# Altium integrated library NSC Amplifier.IntLib: 1615 symbols (part 10 of 44)
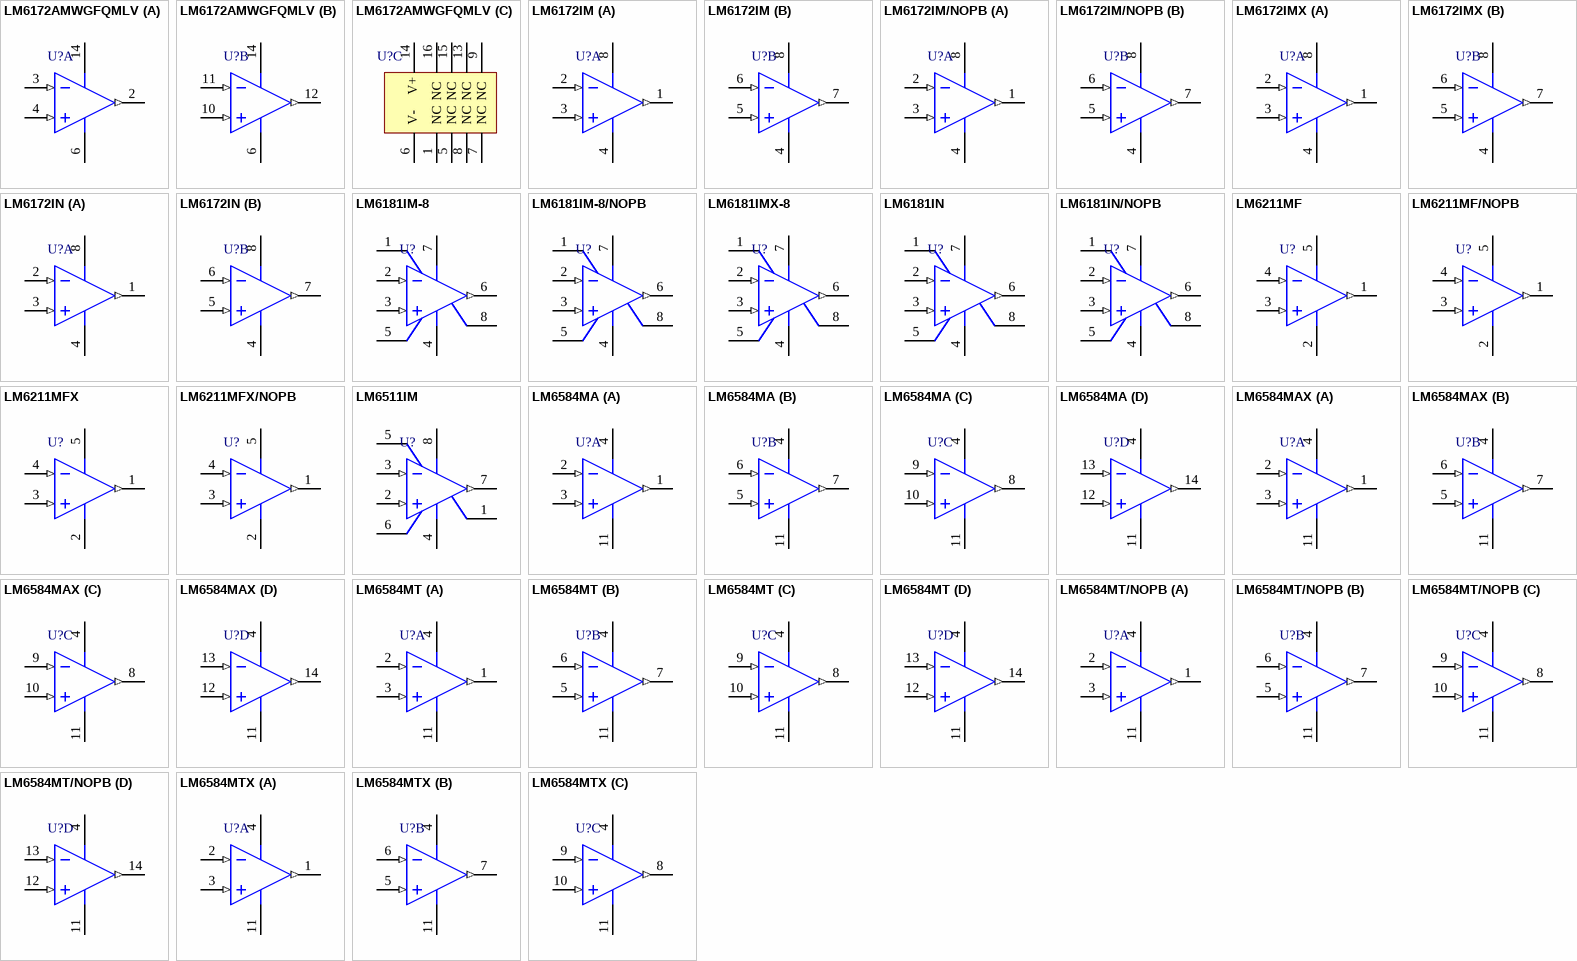
[diagram p91: symbols LM6172AMWGFQMLV to LM6584MTX]

## LM6584MT/NOPB
designator U?
TFT-LCD Quad, 13V RRIO High Output Current Operational Amplifier, 14-pin TSSOP, Pb-Free; PartNumber: LM6584MT/NOPB; Manufacturer: National Semiconductor; PackageTopMarking: NSZXYTT*LM658*4MT; PowerWise: N; CompType: Amplifiers; Published: 1-Mar-2010; DatasheetVersion: Mar-2005; PackageVersion: revD, Jun-2003; PackageReference: MTC14; Publisher: Altium Limited; PackageDescription: Molded TSSOP, JEDEC, 5 x 4.4 x 0.9mm Body, 14 Lead, 0.65mm Pitch; Supplier 1: Digi-Key; Supplier Part Number 1: LM6584MT-ND; RoHS: Y; PinCount: 14; Code_JEDEC: MO-153-AB-1; ComponentLink1Description: LM6584 Datasheet; ComponentLink1URL: http://www.national.com/ds/LM/LM6584.pdf; ComponentLink2Description: LM6584 Web Page; ComponentLink2URL: http://www.national.com/pf/LM/LM6584.html; ComponentLink3Description: MTC14 Package Page; ComponentLink3URL: http://www.national.com/packaging/folders/mtc14.html
footprint MTC14_N (TSOP, 14-Leads, Body 5x4.4mm, Pitch 0.65mm, IPC Medium Density)
footprint MTC14_L (TSOP, 14-Leads, Body 5x4.4mm, Pitch 0.65mm, IPC High Density)
footprint MTC14_M (TSOP, 14-Leads, Body 5x4.4mm, Pitch 0.65mm, IPC Low Density)
pins on every part: 4 V+ (power), 11 V- (power)
part A pins: 1 OUTA (out), 2 INA- (in), 3 INA+ (in)
part B pins: 5 INB+ (in), 6 INB- (in), 7 OUTB (out)
part C pins: 8 OUTC (out), 9 INC- (in), 10 INC+ (in)
part D pins: 12 IND+ (in), 13 IND- (in), 14 OUTD (out)

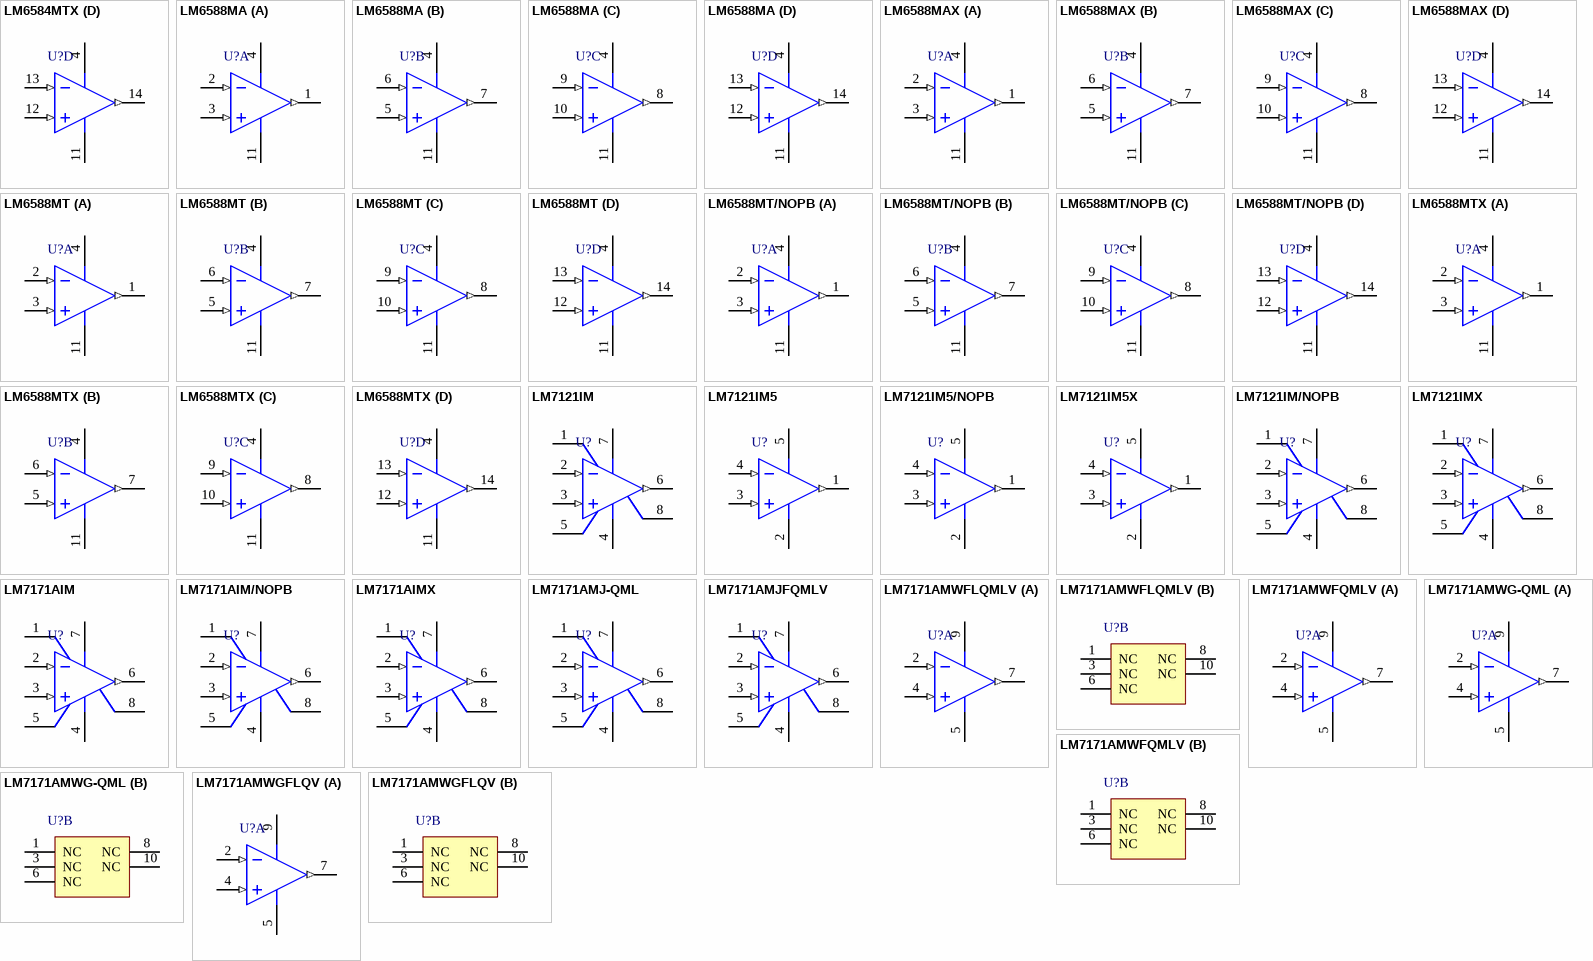
[diagram p22: symbols LM6584MTX to LM7171AMWGFLQV]

## LM6584MTX
designator U?
TFT-LCD Quad, 13V RRIO High Output Current Operational Amplifier, 14-pin TSSOP; PartNumber: LM6584MTX; Manufacturer: National Semiconductor; PackageTopMarking: NSZXYTT*LM658*4MT; PowerWise: N; CompType: Amplifiers; Published: 1-Mar-2010; DatasheetVersion: Mar-2005; PackageVersion: revD, Jun-2003; PackageReference: MTC14; Publisher: Altium Limited; PackageDescription: Molded TSSOP, JEDEC, 5 x 4.4 x 0.9mm Body, 14 Lead, 0.65mm Pitch; RoHS: N; PinCount: 14; Code_JEDEC: MO-153-AB-1; ComponentLink1Description: LM6584 Datasheet; ComponentLink1URL: http://www.national.com/ds/LM/LM6584.pdf; ComponentLink2Description: LM6584 Web Page; ComponentLink2URL: http://www.national.com/pf/LM/LM6584.html; ComponentLink3Description: MTC14 Package Page; ComponentLink3URL: http://www.national.com/packaging/folders/mtc14.html
footprint MTC14_N (TSOP, 14-Leads, Body 5x4.4mm, Pitch 0.65mm, IPC Medium Density)
footprint MTC14_L (TSOP, 14-Leads, Body 5x4.4mm, Pitch 0.65mm, IPC High Density)
footprint MTC14_M (TSOP, 14-Leads, Body 5x4.4mm, Pitch 0.65mm, IPC Low Density)
pins on every part: 4 V+ (power), 11 V- (power)
part A pins: 1 OUTA (out), 2 INA- (in), 3 INA+ (in)
part B pins: 5 INB+ (in), 6 INB- (in), 7 OUTB (out)
part C pins: 8 OUTC (out), 9 INC- (in), 10 INC+ (in)
part D pins: 12 IND+ (in), 13 IND- (in), 14 OUTD (out)

## LM6588MA
designator U?
Quad 16 Volt, RRIO High Output Current Operational Amplifier, 14-pin Narrow SOIC; PartNumber: LM6588MA; Manufacturer: National Semiconductor; PackageTopMarking: NSUZXYTTE#*LM6588MA; PowerWise: N; CompType: Amplifiers; Published: 4-Dec-2008; DatasheetVersion: Jul-2005; PackageVersion: revJ, Jan-1996; PackageReference: M14A; Publisher: Altium Limited; PackageDescription: Molded Package S.O., .150in Wide, 14 Lead; RoHS: N; PinCount: 14; Code_JEDEC: MS-012AB; Code_IPC: SOIC127P600-14; ComponentLink1Description: LM6588 Datasheet; ComponentLink1URL: http://www.national.com/ds/LM/LM6588.pdf; ComponentLink2Description: LM6588 Web Page; ComponentLink2URL: http://www.national.com/pf/LM/LM6588.html; ComponentLink3Description: M14A Package Page; ComponentLink3URL: http://www.national.com/packaging/folders/m14a.html
footprint M14A_N (SOIC, 14-Leads, Body 8.6x3.9mm, Pitch 1.27mm, IPC Medium Density)
footprint M14A_L (SOIC, 14-Leads, Body 8.6x3.9mm, Pitch 1.27mm, IPC High Density)
footprint M14A_M (SOIC, 14-Leads, Body 8.6x3.9mm, Pitch 1.27mm, IPC Low Density)
pins on every part: 4 V+ (power), 11 V- (power)
part A pins: 1 OUTA (out), 2 INA- (in), 3 INA+ (in)
part B pins: 5 INB+ (in), 6 INB- (in), 7 OUTB (out)
part C pins: 8 OUTC (out), 9 INC- (in), 10 INC+ (in)
part D pins: 12 IND+ (in), 13 IND- (in), 14 OUTD (out)

## LM6588MAX
designator U?
Quad 16 Volt, RRIO High Output Current Operational Amplifier, 14-pin Narrow SOIC; PartNumber: LM6588MAX; Manufacturer: National Semiconductor; PackageTopMarking: NSUZXYTTE#*LM6588MA; PowerWise: N; CompType: Amplifiers; Published: 1-Mar-2010; DatasheetVersion: Jul-2005; PackageVersion: revJ, Jan-1996; PackageReference: M14A; Publisher: Altium Limited; PackageDescription: Molded Package S.O., .150in Wide, 14 Lead; RoHS: N; PinCount: 14; Code_JEDEC: MS-012AB; Code_IPC: SOIC127P600-14; ComponentLink1Description: LM6588 Datasheet; ComponentLink1URL: http://www.national.com/ds/LM/LM6588.pdf; ComponentLink2Description: LM6588 Web Page; ComponentLink2URL: http://www.national.com/pf/LM/LM6588.html; ComponentLink3Description: M14A Package Page; ComponentLink3URL: http://www.national.com/packaging/folders/m14a.html
footprint M14A_N (SOIC, 14-Leads, Body 8.6x3.9mm, Pitch 1.27mm, IPC Medium Density)
footprint M14A_L (SOIC, 14-Leads, Body 8.6x3.9mm, Pitch 1.27mm, IPC High Density)
footprint M14A_M (SOIC, 14-Leads, Body 8.6x3.9mm, Pitch 1.27mm, IPC Low Density)
pins on every part: 4 V+ (power), 11 V- (power)
part A pins: 1 OUTA (out), 2 INA- (in), 3 INA+ (in)
part B pins: 5 INB+ (in), 6 INB- (in), 7 OUTB (out)
part C pins: 8 OUTC (out), 9 INC- (in), 10 INC+ (in)
part D pins: 12 IND+ (in), 13 IND- (in), 14 OUTD (out)

## LM6588MT
designator U?
Quad 16 Volt, RRIO High Output Current Operational Amplifier, 14-pin TSSOP; PartNumber: LM6588MT; Manufacturer: National Semiconductor; PackageTopMarking: NSZXYTT*LM658*8MT; PowerWise: N; CompType: Amplifiers; Published: 4-Dec-2008; DatasheetVersion: Jul-2005; PackageVersion: revD, Jun-2003; PackageReference: MTC14; Publisher: Altium Limited; PackageDescription: Molded TSSOP, JEDEC, 5 x 4.4 x 0.9mm Body, 14 Lead, 0.65mm Pitch; RoHS: N; PinCount: 14; Code_JEDEC: MO-153-AB-1; ComponentLink1Description: LM6588 Datasheet; ComponentLink1URL: http://www.national.com/ds/LM/LM6588.pdf; ComponentLink2Description: LM6588 Web Page; ComponentLink2URL: http://www.national.com/pf/LM/LM6588.html; ComponentLink3Description: MTC14 Package Page; ComponentLink3URL: http://www.national.com/packaging/folders/mtc14.html
footprint MTC14_N (TSOP, 14-Leads, Body 5x4.4mm, Pitch 0.65mm, IPC Medium Density)
footprint MTC14_L (TSOP, 14-Leads, Body 5x4.4mm, Pitch 0.65mm, IPC High Density)
footprint MTC14_M (TSOP, 14-Leads, Body 5x4.4mm, Pitch 0.65mm, IPC Low Density)
pins on every part: 4 V+ (power), 11 V- (power)
part A pins: 1 OUTA (out), 2 INA- (in), 3 INA+ (in)
part B pins: 5 INB+ (in), 6 INB- (in), 7 OUTB (out)
part C pins: 8 OUTC (out), 9 INC- (in), 10 INC+ (in)
part D pins: 12 IND+ (in), 13 IND- (in), 14 OUTD (out)

## LM6588MT/NOPB
designator U?
Quad 16 Volt, RRIO High Output Current Operational Amplifier, 14-pin TSSOP, Pb-Free; PartNumber: LM6588MT/NOPB; Manufacturer: National Semiconductor; PackageTopMarking: NSZXYTT*LM658*8MT; PowerWise: N; CompType: Amplifiers; Published: 1-Mar-2010; DatasheetVersion: Jul-2005; PackageVersion: revD, Jun-2003; PackageReference: MTC14; Publisher: Altium Limited; PackageDescription: Molded TSSOP, JEDEC, 5 x 4.4 x 0.9mm Body, 14 Lead, 0.65mm Pitch; Supplier 1: Digi-Key; Supplier Part Number 1: LM6588MT-ND; Supplier 2: Farnell; Supplier Part Number 2: 1685386; RoHS: Y; PinCount: 14; Code_JEDEC: MO-153-AB-1; ComponentLink1Description: LM6588 Datasheet; ComponentLink1URL: http://www.national.com/ds/LM/LM6588.pdf; ComponentLink2Description: LM6588 Web Page; ComponentLink2URL: http://www.national.com/pf/LM/LM6588.html; ComponentLink3Description: MTC14 Package Page; ComponentLink3URL: http://www.national.com/packaging/folders/mtc14.html
footprint MTC14_N (TSOP, 14-Leads, Body 5x4.4mm, Pitch 0.65mm, IPC Medium Density)
footprint MTC14_L (TSOP, 14-Leads, Body 5x4.4mm, Pitch 0.65mm, IPC High Density)
footprint MTC14_M (TSOP, 14-Leads, Body 5x4.4mm, Pitch 0.65mm, IPC Low Density)
pins on every part: 4 V+ (power), 11 V- (power)
part A pins: 1 OUTA (out), 2 INA- (in), 3 INA+ (in)
part B pins: 5 INB+ (in), 6 INB- (in), 7 OUTB (out)
part C pins: 8 OUTC (out), 9 INC- (in), 10 INC+ (in)
part D pins: 12 IND+ (in), 13 IND- (in), 14 OUTD (out)

## LM6588MTX
designator U?
Quad 16 Volt, RRIO High Output Current Operational Amplifier, 14-pin TSSOP; PartNumber: LM6588MTX; Manufacturer: National Semiconductor; PackageTopMarking: NSZXYTT*LM658*8MT; PowerWise: N; CompType: Amplifiers; Published: 1-Mar-2010; DatasheetVersion: Jul-2005; PackageVersion: revD, Jun-2003; PackageReference: MTC14; Publisher: Altium Limited; PackageDescription: Molded TSSOP, JEDEC, 5 x 4.4 x 0.9mm Body, 14 Lead, 0.65mm Pitch; RoHS: N; PinCount: 14; Code_JEDEC: MO-153-AB-1; ComponentLink1Description: LM6588 Datasheet; ComponentLink1URL: http://www.national.com/ds/LM/LM6588.pdf; ComponentLink2Description: LM6588 Web Page; ComponentLink2URL: http://www.national.com/pf/LM/LM6588.html; ComponentLink3Description: MTC14 Package Page; ComponentLink3URL: http://www.national.com/packaging/folders/mtc14.html
footprint MTC14_N (TSOP, 14-Leads, Body 5x4.4mm, Pitch 0.65mm, IPC Medium Density)
footprint MTC14_L (TSOP, 14-Leads, Body 5x4.4mm, Pitch 0.65mm, IPC High Density)
footprint MTC14_M (TSOP, 14-Leads, Body 5x4.4mm, Pitch 0.65mm, IPC Low Density)
pins on every part: 4 V+ (power), 11 V- (power)
part A pins: 1 OUTA (out), 2 INA- (in), 3 INA+ (in)
part B pins: 5 INB+ (in), 6 INB- (in), 7 OUTB (out)
part C pins: 8 OUTC (out), 9 INC- (in), 10 INC+ (in)
part D pins: 12 IND+ (in), 13 IND- (in), 14 OUTD (out)

## LM7121IM
designator U?
175 MHz Tiny Low Power Voltage Feedback Amplifier, 8-pin Narrow SOIC; PartNumber: LM7121IM; Manufacturer: National Semiconductor; PackageTopMarking: NSZXTT*LM71*21IM; PowerWise: Y; CompType: Amplifiers; Published: 4-Dec-2008; LatestRevisionDate: 13-Jan-2009; LatestRevisionNote: Sim Model Added.; DatasheetVersion: Aug-1999; PackageVersion: revM, May-2009; PackageReference: M08A; Publisher: Altium Limited; PackageDescription: SOIC Narrow, 4.9 x 3.9 x 1.45mm, 8 Lead, 1.27mm Pitch; Supplier 1: Farnell; Supplier Part Number 1: 9494120; RoHS: N; PinCount: 8; Code_JEDEC: MS-012-AA; Code_IPC: SOIC127P600-8; ComponentLink1Description: LM7121 Datasheet; ComponentLink1URL: http://www.national.com/ds/LM/LM7121.pdf; ComponentLink2Description: LM7121 Web Page; ComponentLink2URL: http://www.national.com/pf/LM/LM7121.html; ComponentLink3Description: M08A Package Page; ComponentLink3URL: http://www.national.com/packaging/folders/m08a.html
footprint M08A_N (SOIC, 8-Leads, Body 4.9x3.9mm, Pitch 1.27mm, IPC Medium Density)
footprint M08A_L (SOIC, 8-Leads, Body 4.9x3.9mm, Pitch 1.27mm, IPC High Density)
footprint M08A_M (SOIC, 8-Leads, Body 4.9x3.9mm, Pitch 1.27mm, IPC Low Density)
simulation model LM7121 (SUBCKT)
pins: 1 NC, 2 IN- (in), 3 IN+ (in), 4 V- (power), 5 NC, 6 OUT (out), 7 V+ (power), 8 NC

## LM7121IM5
designator U?
175 MHz Tiny Low Power Voltage Feedback Amplifier, 5-pin SOT-23; PartNumber: LM7121IM5; Manufacturer: National Semiconductor; PackageTopMarking: A03A*XTT; PowerWise: Y; CompType: Amplifiers; Published: 4-Dec-2008; LatestRevisionDate: 13-Jan-2009; LatestRevisionNote: Sim Model Added.; DatasheetVersion: Aug-1999; PackageVersion: revD, Aug-2008; PackageReference: MF05A; Publisher: Altium Limited; PackageDescription: Molded SOT-23, .115 x .063 x .040 in Body, 5 Lead, .0375 in Pitch; Supplier 1: Farnell; Supplier Part Number 1: 9779892; RoHS: N; PinCount: 5; ComponentLink1Description: LM7121 Datasheet; ComponentLink1URL: http://www.national.com/ds/LM/LM7121.pdf; ComponentLink2Description: LM7121 Web Page; ComponentLink2URL: http://www.national.com/pf/LM/LM7121.html; ComponentLink3Description: MF05A Package Page; ComponentLink3URL: http://www.national.com/packaging/folders/mf05a.html
footprint MF05A_N (SOT23, 5-Leads, Body 2.9x1.6mm, Pitch 0.95mm, Lead Span 2.8mm, IPC Medium Density)
footprint MF05A_L (SOT23, 5-Leads, Body 2.9x1.6mm, Pitch 0.95mm, Lead Span 2.8mm, IPC High Density)
footprint MF05A_M (SOT23, 5-Leads, Body 2.9x1.6mm, Pitch 0.95mm, Lead Span 2.8mm, IPC Low Density)
simulation model LM7121 (SUBCKT)
pins: 1 OUT (out), 2 V- (power), 3 IN+ (in), 4 IN- (in), 5 V+ (power)

## LM7121IM5/NOPB
designator U?
175 MHz Tiny Low Power Voltage Feedback Amplifier, 5-pin SOT-23, Pb-Free; PartNumber: LM7121IM5/NOPB; Manufacturer: National Semiconductor; PackageTopMarking: A03A*XTT; PowerWise: Y; CompType: Amplifiers; Published: 1-Mar-2010; DatasheetVersion: Aug-1999; PackageVersion: revD, Aug-2008; PackageReference: MF05A; Publisher: Altium Limited; PackageDescription: Molded SOT-23, .115 x .063 x .040 in Body, 5 Lead, .0375 in Pitch; Supplier 1: Digi-Key; Supplier Part Number 1: LM7121IM5TR-ND; Supplier 2: Digi-Key; Supplier Part Number 2: LM7121IM5CT-ND; Supplier 3: Digi-Key; Supplier Part Number 3: LM7121IM5DKR-ND; Supplier 4: Farnell; Supplier Part Number 4: 1694031; RoHS: Y; PinCount: 5; ComponentLink1Description: LM7121 Datasheet; ComponentLink1URL: http://www.national.com/ds/LM/LM7121.pdf; ComponentLink2Description: LM7121 Web Page; ComponentLink2URL: http://www.national.com/pf/LM/LM7121.html; ComponentLink3Description: MF05A Package Page; ComponentLink3URL: http://www.national.com/packaging/folders/mf05a.html
footprint MF05A_N (SOT23, 5-Leads, Body 2.9x1.6mm, Pitch 0.95mm, Lead Span 2.8mm, IPC Medium Density)
footprint MF05A_L (SOT23, 5-Leads, Body 2.9x1.6mm, Pitch 0.95mm, Lead Span 2.8mm, IPC High Density)
footprint MF05A_M (SOT23, 5-Leads, Body 2.9x1.6mm, Pitch 0.95mm, Lead Span 2.8mm, IPC Low Density)
simulation model LM7121 (SUBCKT)
pins: 1 OUT (out), 2 V- (power), 3 IN+ (in), 4 IN- (in), 5 V+ (power)

## LM7121IM5X
designator U?
175 MHz Tiny Low Power Voltage Feedback Amplifier, 5-pin SOT-23; PartNumber: LM7121IM5X; Manufacturer: National Semiconductor; PackageTopMarking: A03A*XTT; PowerWise: Y; CompType: Amplifiers; Published: 1-Mar-2010; DatasheetVersion: Aug-1999; PackageVersion: revD, Aug-2008; PackageReference: MF05A; Publisher: Altium Limited; PackageDescription: Molded SOT-23, .115 x .063 x .040 in Body, 5 Lead, .0375 in Pitch; RoHS: N; PinCount: 5; ComponentLink1Description: LM7121 Datasheet; ComponentLink1URL: http://www.national.com/ds/LM/LM7121.pdf; ComponentLink2Description: LM7121 Web Page; ComponentLink2URL: http://www.national.com/pf/LM/LM7121.html; ComponentLink3Description: MF05A Package Page; ComponentLink3URL: http://www.national.com/packaging/folders/mf05a.html
footprint MF05A_N (SOT23, 5-Leads, Body 2.9x1.6mm, Pitch 0.95mm, Lead Span 2.8mm, IPC Medium Density)
footprint MF05A_L (SOT23, 5-Leads, Body 2.9x1.6mm, Pitch 0.95mm, Lead Span 2.8mm, IPC High Density)
footprint MF05A_M (SOT23, 5-Leads, Body 2.9x1.6mm, Pitch 0.95mm, Lead Span 2.8mm, IPC Low Density)
simulation model LM7121 (SUBCKT)
pins: 1 OUT (out), 2 V- (power), 3 IN+ (in), 4 IN- (in), 5 V+ (power)

## LM7121IM/NOPB
designator U?
175 MHz Tiny Low Power Voltage Feedback Amplifier, 8-pin Narrow SOIC, Pb-Free; PartNumber: LM7121IM/NOPB; Manufacturer: National Semiconductor; PackageTopMarking: NSZXTT*LM71*21IM; PowerWise: Y; CompType: Amplifiers; Published: 1-Mar-2010; DatasheetVersion: Aug-1999; PackageVersion: revM, May-2009; PackageReference: M08A; Publisher: Altium Limited; PackageDescription: SOIC Narrow, 4.9 x 3.9 x 1.45mm, 8 Lead, 1.27mm Pitch; Supplier 1: Digi-Key; Supplier Part Number 1: LM7121IM-ND; Supplier 2: Farnell; Supplier Part Number 2: 1333432; RoHS: Y; PinCount: 8; Code_JEDEC: MS-012-AA; Code_IPC: SOIC127P600-8; ComponentLink1Description: LM7121 Datasheet; ComponentLink1URL: http://www.national.com/ds/LM/LM7121.pdf; ComponentLink2Description: LM7121 Web Page; ComponentLink2URL: http://www.national.com/pf/LM/LM7121.html; ComponentLink3Description: M08A Package Page; ComponentLink3URL: http://www.national.com/packaging/folders/m08a.html
footprint M08A_N (SOIC, 8-Leads, Body 4.9x3.9mm, Pitch 1.27mm, IPC Medium Density)
footprint M08A_L (SOIC, 8-Leads, Body 4.9x3.9mm, Pitch 1.27mm, IPC High Density)
footprint M08A_M (SOIC, 8-Leads, Body 4.9x3.9mm, Pitch 1.27mm, IPC Low Density)
simulation model LM7121 (SUBCKT)
pins: 1 NC, 2 IN- (in), 3 IN+ (in), 4 V- (power), 5 NC, 6 OUT (out), 7 V+ (power), 8 NC

## LM7121IMX
designator U?
175 MHz Tiny Low Power Voltage Feedback Amplifier, 8-pin Narrow SOIC; PartNumber: LM7121IMX; Manufacturer: National Semiconductor; PackageTopMarking: NSZXTT*LM71*21IM; PowerWise: Y; CompType: Amplifiers; Published: 1-Mar-2010; DatasheetVersion: Aug-1999; PackageVersion: revM, May-2009; PackageReference: M08A; Publisher: Altium Limited; PackageDescription: SOIC Narrow, 4.9 x 3.9 x 1.45mm, 8 Lead, 1.27mm Pitch; RoHS: N; PinCount: 8; Code_JEDEC: MS-012-AA; Code_IPC: SOIC127P600-8; ComponentLink1Description: LM7121 Datasheet; ComponentLink1URL: http://www.national.com/ds/LM/LM7121.pdf; ComponentLink2Description: LM7121 Web Page; ComponentLink2URL: http://www.national.com/pf/LM/LM7121.html; ComponentLink3Description: M08A Package Page; ComponentLink3URL: http://www.national.com/packaging/folders/m08a.html
footprint M08A_N (SOIC, 8-Leads, Body 4.9x3.9mm, Pitch 1.27mm, IPC Medium Density)
footprint M08A_L (SOIC, 8-Leads, Body 4.9x3.9mm, Pitch 1.27mm, IPC High Density)
footprint M08A_M (SOIC, 8-Leads, Body 4.9x3.9mm, Pitch 1.27mm, IPC Low Density)
simulation model LM7121 (SUBCKT)
pins: 1 NC, 2 IN- (in), 3 IN+ (in), 4 V- (power), 5 NC, 6 OUT (out), 7 V+ (power), 8 NC

## LM7171AIM
designator U?
Very High Speed, High Output Current, Voltage Feedback Amplifier, 8-pin Narrow SOIC; PartNumber: LM7171AIM; Manufacturer: National Semiconductor; PackageTopMarking: NSZXTT*LM71*71AIM; PowerWise: N; CompType: Amplifiers; Published: 4-Dec-2008; LatestRevisionDate: 13-Jan-2009; LatestRevisionNote: Sim Model Added.; DatasheetVersion: May-2006; PackageVersion: revM, May-2009; PackageReference: M08A; Publisher: Altium Limited; PackageDescription: SOIC Narrow, 4.9 x 3.9 x 1.45mm, 8 Lead, 1.27mm Pitch; RoHS: N; PinCount: 8; Code_JEDEC: MS-012-AA; Code_IPC: SOIC127P600-8; ComponentLink1Description: LM7171 Datasheet; ComponentLink1URL: http://www.national.com/ds/LM/LM7171.pdf; ComponentLink2Description: LM7171 Web Page; ComponentLink2URL: http://www.national.com/pf/LM/LM7171.html; ComponentLink3Description: M08A Package Page; ComponentLink3URL: http://www.national.com/packaging/folders/m08a.html
footprint M08A_N (SOIC, 8-Leads, Body 4.9x3.9mm, Pitch 1.27mm, IPC Medium Density)
footprint M08A_L (SOIC, 8-Leads, Body 4.9x3.9mm, Pitch 1.27mm, IPC High Density)
footprint M08A_M (SOIC, 8-Leads, Body 4.9x3.9mm, Pitch 1.27mm, IPC Low Density)
simulation model LM7171A (SUBCKT)
pins: 1 NC, 2 IN- (in), 3 IN+ (in), 4 V- (power), 5 NC, 6 OUT (out), 7 V+ (power), 8 NC

## LM7171AIM/NOPB
designator U?
Very High Speed, High Output Current, Voltage Feedback Amplifier, 8-pin Narrow SOIC, Pb-Free; PartNumber: LM7171AIM/NOPB; Manufacturer: National Semiconductor; PackageTopMarking: NSZXTT*LM71*71AIM; PowerWise: N; CompType: Amplifiers; Published: 1-Mar-2010; DatasheetVersion: May-2006; PackageVersion: revM, May-2009; PackageReference: M08A; Publisher: Altium Limited; PackageDescription: SOIC Narrow, 4.9 x 3.9 x 1.45mm, 8 Lead, 1.27mm Pitch; Supplier 1: Digi-Key; Supplier Part Number 1: LM7171AIM-ND; RoHS: Y; PinCount: 8; Code_JEDEC: MS-012-AA; Code_IPC: SOIC127P600-8; ComponentLink1Description: LM7171 Datasheet; ComponentLink1URL: http://www.national.com/ds/LM/LM7171.pdf; ComponentLink2Description: LM7171 Web Page; ComponentLink2URL: http://www.national.com/pf/LM/LM7171.html; ComponentLink3Description: M08A Package Page; ComponentLink3URL: http://www.national.com/packaging/folders/m08a.html
footprint M08A_N (SOIC, 8-Leads, Body 4.9x3.9mm, Pitch 1.27mm, IPC Medium Density)
footprint M08A_L (SOIC, 8-Leads, Body 4.9x3.9mm, Pitch 1.27mm, IPC High Density)
footprint M08A_M (SOIC, 8-Leads, Body 4.9x3.9mm, Pitch 1.27mm, IPC Low Density)
simulation model LM7171A (SUBCKT)
pins: 1 NC, 2 IN- (in), 3 IN+ (in), 4 V- (power), 5 NC, 6 OUT (out), 7 V+ (power), 8 NC

## LM7171AIMX
designator U?
Very High Speed, High Output Current, Voltage Feedback Amplifier, 8-pin Narrow SOIC; PartNumber: LM7171AIMX; Manufacturer: National Semiconductor; PackageTopMarking: NSZXTT*LM71*71AIM; PowerWise: N; CompType: Amplifiers; Published: 1-Mar-2010; DatasheetVersion: May-2006; PackageVersion: revM, May-2009; PackageReference: M08A; Publisher: Altium Limited; PackageDescription: SOIC Narrow, 4.9 x 3.9 x 1.45mm, 8 Lead, 1.27mm Pitch; RoHS: N; PinCount: 8; Code_JEDEC: MS-012-AA; Code_IPC: SOIC127P600-8; ComponentLink1Description: LM7171 Datasheet; ComponentLink1URL: http://www.national.com/ds/LM/LM7171.pdf; ComponentLink2Description: LM7171 Web Page; ComponentLink2URL: http://www.national.com/pf/LM/LM7171.html; ComponentLink3Description: M08A Package Page; ComponentLink3URL: http://www.national.com/packaging/folders/m08a.html
footprint M08A_N (SOIC, 8-Leads, Body 4.9x3.9mm, Pitch 1.27mm, IPC Medium Density)
footprint M08A_L (SOIC, 8-Leads, Body 4.9x3.9mm, Pitch 1.27mm, IPC High Density)
footprint M08A_M (SOIC, 8-Leads, Body 4.9x3.9mm, Pitch 1.27mm, IPC Low Density)
simulation model LM7171A (SUBCKT)
pins: 1 NC, 2 IN- (in), 3 IN+ (in), 4 V- (power), 5 NC, 6 OUT (out), 7 V+ (power), 8 NC

## LM7171AMJ-QML
designator U?
Very High Speed, High Output Current, Voltage Feedback Amplifier, 8-pin CerDIP; PartNumber: LM7171AMJ-QML; Manufacturer: National Semiconductor; PackageTopMarking: NSZSSXXYYA*LM7171AMJ-*QML Q 5962-*9553601QPA; PowerWise: N; CompType: Amplifiers; High-Reliability: Y; Published: 4-Dec-2008; LatestRevisionDate: 13-Jan-2009; LatestRevisionNote: Sim Model Added.; DatasheetVersion: May-2006; PackageVersion: revM, Jul-2002; PackageReference: J08A; Publisher: Altium Limited; PackageDescription: Cerdip, .400 x .310in Body, 8 Lead, .300in Centers, .100in Pitch; RoHS: N; PinCount: 8; ComponentLink1Description: LM7171 Datasheet; ComponentLink1URL: http://www.national.com/ds/LM/LM7171QML.pdf; ComponentLink2Description: LM7171 Web Page; ComponentLink2URL: http://www.national.com/pf/LM/LM7171.html; ComponentLink3Description: J08A Package Page; ComponentLink3URL: http://www.national.com/packaging/folders/j08a.html
footprint J08A (DIP, 8-Leads, Row Spacing 7.62mm, Pitch 2.54mm, Body 9.78x6.73mm)
simulation model LM7171A (SUBCKT)
pins: 1 NC, 2 IN- (in), 3 IN+ (in), 4 V- (power), 5 NC, 6 OUT (out), 7 V+ (power), 8 NC

## LM7171AMJFQMLV
designator U?
Very High Speed, High Output Current, Voltage Feedback Amplifier, 8-pin CerDIP; PartNumber: LM7171AMJFQMLV; Manufacturer: National Semiconductor; PackageTopMarking: NSZSSXXYYA*LM7171AMJF*QV Q 5962F*9553601VPA; PowerWise: N; CompType: Amplifiers; High-Reliability: Y; Published: 4-Dec-2008; LatestRevisionDate: 13-Jan-2009; LatestRevisionNote: Sim Model Added.; DatasheetVersion: May-2006; PackageVersion: revM, Jul-2002; PackageReference: J08A; Publisher: Altium Limited; PackageDescription: Cerdip, .400 x .310in Body, 8 Lead, .300in Centers, .100in Pitch; RoHS: N; PinCount: 8; ComponentLink1Description: LM7171 Datasheet; ComponentLink1URL: http://www.national.com/ds/LM/LM7171QML.pdf; ComponentLink2Description: LM7171 Web Page; ComponentLink2URL: http://www.national.com/pf/LM/LM7171.html; ComponentLink3Description: J08A Package Page; ComponentLink3URL: http://www.national.com/packaging/folders/j08a.html
footprint J08A (DIP, 8-Leads, Row Spacing 7.62mm, Pitch 2.54mm, Body 9.78x6.73mm)
simulation model LM7171A (SUBCKT)
pins: 1 NC, 2 IN- (in), 3 IN+ (in), 4 V- (power), 5 NC, 6 OUT (out), 7 V+ (power), 8 NC

## LM7171AMWFLQMLV
designator U?
Very High Speed, High Output Current, Voltage Feedback Amplifier, 10-pin CerPACK; PartNumber: LM7171AMWFLQMLV; Manufacturer: National Semiconductor; PackageTopMarking: NSZSSXXYYA*5962F*9553602VHA*LM7171AM*WFLQV Q; PowerWise: N; CompType: Amplifiers; High-Reliability: Y; Published: 9-Oct-2009; DatasheetVersion: Feb-2009; PackageVersion: revH, Sep-2003; PackageReference: W10A; Publisher: Altium Limited; PackageDescription: Cerpack, .270 x .241 x .067in Body, 10 Lead, .050in Pitch; RoHS: N; PinCount: 10; Code_JEDEC: MS-033-AA; ComponentLink1Description: LM7171 Datasheet; ComponentLink1URL: http://www.national.com/ds/LM/LM7171QML.pdf; ComponentLink2Description: LM7171 Web Page; ComponentLink2URL: http://www.national.com/pf/LM/LM7171.html; ComponentLink3Description: W10A Package Page; ComponentLink3URL: http://www.national.com/packaging/folders/w10a.html
footprint W10A (DFP; 10 Leads; Body 6.9 x 6.9 mm (LxW max); Pitch 1.27 mm)
simulation model LM7171A/NS (SUBCKT)
part A pins: 2 IN- (in), 4 IN+ (in), 5 V- (power), 7 OUT (out), 9 V+ (power)
part B pins: 1 NC, 3 NC, 6 NC, 8 NC, 10 NC

## LM7171AMWFQMLV
designator U?
Very High Speed, High Output Current, Voltage Feedback Amplifier, 10-pin CerPACK; PartNumber: LM7171AMWFQMLV; Manufacturer: National Semiconductor; PackageTopMarking: NS5962F*9553601V*HALM7171*AMWFQV Q*ZSSXXYYA; PowerWise: N; CompType: Amplifiers; High-Reliability: Y; Published: 29-May-2009; DatasheetVersion: Feb-2009; PackageVersion: revH, Sep-2003; PackageReference: W10A; Publisher: Altium Limited; PackageDescription: Cerpack, .270 x .241 x .067in Body, 10 Lead, .050in Pitch; RoHS: N; PinCount: 10; Code_JEDEC: MS-033-AA; ComponentLink1Description: LM7171 Datasheet; ComponentLink1URL: http://www.national.com/ds/LM/LM7171QML.pdf; ComponentLink2Description: LM7171 Web Page; ComponentLink2URL: http://www.national.com/pf/LM/LM7171.html; ComponentLink3Description: W10A Package Page; ComponentLink3URL: http://www.national.com/packaging/folders/w10a.html
footprint W10A (DFP; 10 Leads; Body 6.9 x 6.9 mm (LxW max); Pitch 1.27 mm)
simulation model LM7171A (SUBCKT)
part A pins: 2 IN- (in), 4 IN+ (in), 5 V- (power), 7 OUT (out), 9 V+ (power)
part B pins: 1 NC, 3 NC, 6 NC, 8 NC, 10 NC

## LM7171AMWG-QML
designator U?
Very High Speed, High Output Current, Voltage Feedback Amplifier, 10-pin CerPACK; PartNumber: LM7171AMWG-QML; Manufacturer: National Semiconductor; PackageTopMarking: NS*ZSSXXYYA*LM7171AM*WG Q 955*3601QXA; PowerWise: N; CompType: Amplifiers; High-Reliability: Y; Published: 29-May-2009; DatasheetVersion: Feb-2009; PackageVersion: revF, Oct-2008; PackageReference: WG10A; Publisher: Altium Limited; PackageDescription: Cerpack, .270 x .241 x .070in, 10 Lead, .050in Pitch, Gull Wing; RoHS: N; PinCount: 10; ComponentLink1Description: LM7171 Datasheet; ComponentLink1URL: http://www.national.com/ds/LM/LM7171QML.pdf; ComponentLink2Description: LM7171 Web Page; ComponentLink2URL: http://www.national.com/pf/LM/LM7171.html; ComponentLink3Description: WG10A Package Page; ComponentLink3URL: http://www.national.com/packaging/folders/wg10a.html
footprint WG10A_N (CERPACK, 10-Leads, Body 6.9x6.3mm, Pitch 1.27mm, IPC Medium Density)
footprint WG10A_L (CERPACK, 10-Leads, Body 6.9x6.3mm, Pitch 1.27mm, IPC High Density)
footprint WG10A_M (CERPACK, 10-Leads, Body 6.9x6.3mm, Pitch 1.27mm, IPC Low Density)
simulation model LM7171A (SUBCKT)
part A pins: 2 IN- (in), 4 IN+ (in), 5 V- (power), 7 OUT (out), 9 V+ (power)
part B pins: 1 NC, 3 NC, 6 NC, 8 NC, 10 NC

## LM7171AMWGFLQV
designator U?
Very High Speed, High Output Current, Voltage Feedback Amplifier, 10-pin CerPACK; PartNumber: LM7171AMWGFLQV; Manufacturer: National Semiconductor; PackageTopMarking: NS5962F9*553602VXA*LM7171AM*WGFLQV Q*ZSSXXYYA; PowerWise: N; CompType: Amplifiers; High-Reliability: Y; Published: 9-Oct-2009; DatasheetVersion: Feb-2009; PackageVersion: revF, Oct-2008; PackageReference: WG10A; Publisher: Altium Limited; PackageDescription: Cerpack, .270 x .241 x .070in, 10 Lead, .050in Pitch, Gull Wing; RoHS: N; PinCount: 10; ComponentLink1Description: LM7171 Datasheet; ComponentLink1URL: http://www.national.com/ds/LM/LM7171QML.pdf; ComponentLink2Description: LM7171 Web Page; ComponentLink2URL: http://www.national.com/pf/LM/LM7171.html; ComponentLink3Description: WG10A Package Page; ComponentLink3URL: http://www.national.com/packaging/folders/wg10a.html
footprint WG10A_N (CERPACK, 10-Leads, Body 6.9x6.3mm, Pitch 1.27mm, IPC Medium Density)
footprint WG10A_L (CERPACK, 10-Leads, Body 6.9x6.3mm, Pitch 1.27mm, IPC High Density)
footprint WG10A_M (CERPACK, 10-Leads, Body 6.9x6.3mm, Pitch 1.27mm, IPC Low Density)
simulation model LM7171A/NS (SUBCKT)
part A pins: 2 IN- (in), 4 IN+ (in), 5 V- (power), 7 OUT (out), 9 V+ (power)
part B pins: 1 NC, 3 NC, 6 NC, 8 NC, 10 NC

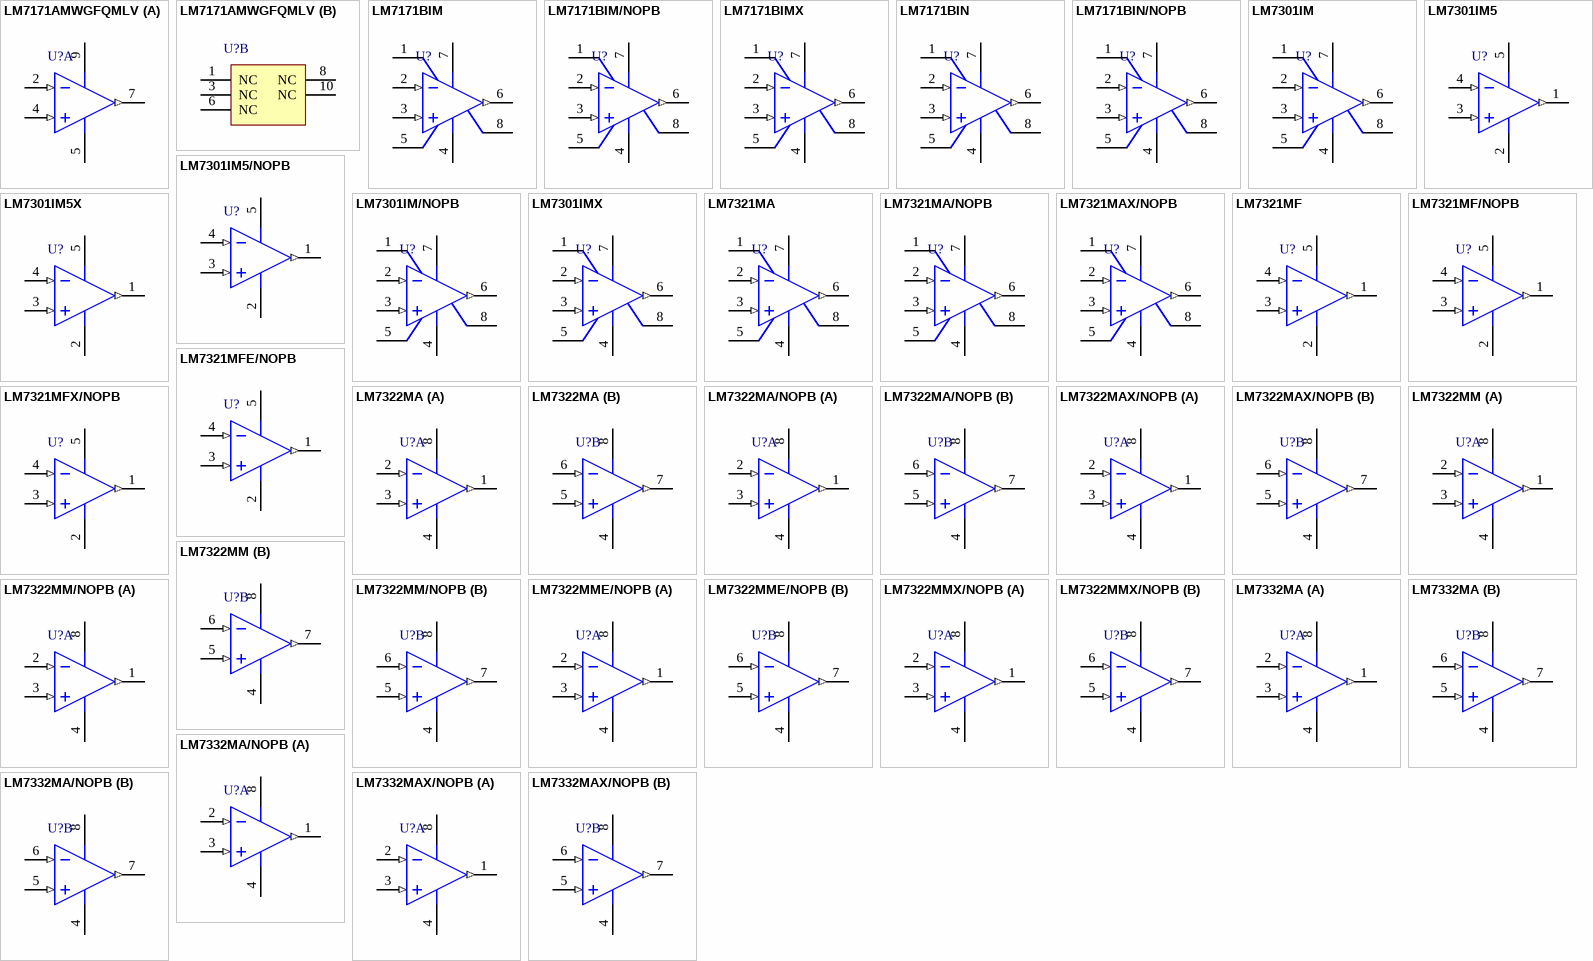
[diagram p23: symbols LM7171AMWGFQMLV to LM7332MAX/NOPB]

## LM7171AMWGFQMLV
designator U?
Very High Speed, High Output Current, Voltage Feedback Amplifier, 10-pin CerPACK; PartNumber: LM7171AMWGFQMLV; Manufacturer: National Semiconductor; PackageTopMarking: NS5962F9*553601VXA*LM7171AM*WGFQV Q*ZSSXXYYA; PowerWise: N; CompType: Amplifiers; High-Reliability: Y; Published: 29-May-2009; DatasheetVersion: Feb-2009; PackageVersion: revF, Oct-2008; PackageReference: WG10A; Publisher: Altium Limited; PackageDescription: Cerpack, .270 x .241 x .070in, 10 Lead, .050in Pitch, Gull Wing; RoHS: N; PinCount: 10; ComponentLink1Description: LM7171 Datasheet; ComponentLink1URL: http://www.national.com/ds/LM/LM7171QML.pdf; ComponentLink2Description: LM7171 Web Page; ComponentLink2URL: http://www.national.com/pf/LM/LM7171.html; ComponentLink3Description: WG10A Package Page; ComponentLink3URL: http://www.national.com/packaging/folders/wg10a.html
footprint WG10A_N (CERPACK, 10-Leads, Body 6.9x6.3mm, Pitch 1.27mm, IPC Medium Density)
footprint WG10A_L (CERPACK, 10-Leads, Body 6.9x6.3mm, Pitch 1.27mm, IPC High Density)
footprint WG10A_M (CERPACK, 10-Leads, Body 6.9x6.3mm, Pitch 1.27mm, IPC Low Density)
simulation model LM7171A (SUBCKT)
part A pins: 2 IN- (in), 4 IN+ (in), 5 V- (power), 7 OUT (out), 9 V+ (power)
part B pins: 1 NC, 3 NC, 6 NC, 8 NC, 10 NC

## LM7171BIM
designator U?
Very High Speed, High Output Current, Voltage Feedback Amplifier, 8-pin Narrow SOIC; PartNumber: LM7171BIM; Manufacturer: National Semiconductor; PackageTopMarking: NSZXTT*LM71*71BIM; PowerWise: N; CompType: Amplifiers; Published: 4-Dec-2008; LatestRevisionDate: 13-Jan-2009; LatestRevisionNote: Sim Model Added.; DatasheetVersion: May-2006; PackageVersion: revM, May-2009; PackageReference: M08A; Publisher: Altium Limited; PackageDescription: SOIC Narrow, 4.9 x 3.9 x 1.45mm, 8 Lead, 1.27mm Pitch; RoHS: N; PinCount: 8; Code_JEDEC: MS-012-AA; Code_IPC: SOIC127P600-8; ComponentLink1Description: LM7171 Datasheet; ComponentLink1URL: http://www.national.com/ds/LM/LM7171.pdf; ComponentLink2Description: LM7171 Web Page; ComponentLink2URL: http://www.national.com/pf/LM/LM7171.html; ComponentLink3Description: M08A Package Page; ComponentLink3URL: http://www.national.com/packaging/folders/m08a.html
footprint M08A_N (SOIC, 8-Leads, Body 4.9x3.9mm, Pitch 1.27mm, IPC Medium Density)
footprint M08A_L (SOIC, 8-Leads, Body 4.9x3.9mm, Pitch 1.27mm, IPC High Density)
footprint M08A_M (SOIC, 8-Leads, Body 4.9x3.9mm, Pitch 1.27mm, IPC Low Density)
simulation model LM7171B (SUBCKT)
pins: 1 NC, 2 IN- (in), 3 IN+ (in), 4 V- (power), 5 NC, 6 OUT (out), 7 V+ (power), 8 NC

## LM7171BIM/NOPB
designator U?
Very High Speed, High Output Current, Voltage Feedback Amplifier, 8-pin Narrow SOIC, Pb-Free; PartNumber: LM7171BIM/NOPB; Manufacturer: National Semiconductor; PackageTopMarking: NSZXTT*LM71*71BIM; PowerWise: N; CompType: Amplifiers; Published: 1-Mar-2010; DatasheetVersion: May-2006; PackageVersion: revM, May-2009; PackageReference: M08A; Publisher: Altium Limited; PackageDescription: SOIC Narrow, 4.9 x 3.9 x 1.45mm, 8 Lead, 1.27mm Pitch; Supplier 1: Digi-Key; Supplier Part Number 1: LM7171BIM-ND; Supplier 2: Farnell; Supplier Part Number 2: 1468934; RoHS: Y; PinCount: 8; Code_JEDEC: MS-012-AA; Code_IPC: SOIC127P600-8; ComponentLink1Description: LM7171 Datasheet; ComponentLink1URL: http://www.national.com/ds/LM/LM7171.pdf; ComponentLink2Description: LM7171 Web Page; ComponentLink2URL: http://www.national.com/pf/LM/LM7171.html; ComponentLink3Description: M08A Package Page; ComponentLink3URL: http://www.national.com/packaging/folders/m08a.html
footprint M08A_N (SOIC, 8-Leads, Body 4.9x3.9mm, Pitch 1.27mm, IPC Medium Density)
footprint M08A_L (SOIC, 8-Leads, Body 4.9x3.9mm, Pitch 1.27mm, IPC High Density)
footprint M08A_M (SOIC, 8-Leads, Body 4.9x3.9mm, Pitch 1.27mm, IPC Low Density)
simulation model LM7171B (SUBCKT)
pins: 1 NC, 2 IN- (in), 3 IN+ (in), 4 V- (power), 5 NC, 6 OUT (out), 7 V+ (power), 8 NC

## LM7171BIMX
designator U?
Very High Speed, High Output Current, Voltage Feedback Amplifier, 8-pin Narrow SOIC; PartNumber: LM7171BIMX; Manufacturer: National Semiconductor; PackageTopMarking: NSZXTT*LM71*71BIM; PowerWise: N; CompType: Amplifiers; Published: 1-Mar-2010; DatasheetVersion: May-2006; PackageVersion: revM, May-2009; PackageReference: M08A; Publisher: Altium Limited; PackageDescription: SOIC Narrow, 4.9 x 3.9 x 1.45mm, 8 Lead, 1.27mm Pitch; RoHS: N; PinCount: 8; Code_JEDEC: MS-012-AA; Code_IPC: SOIC127P600-8; ComponentLink1Description: LM7171 Datasheet; ComponentLink1URL: http://www.national.com/ds/LM/LM7171.pdf; ComponentLink2Description: LM7171 Web Page; ComponentLink2URL: http://www.national.com/pf/LM/LM7171.html; ComponentLink3Description: M08A Package Page; ComponentLink3URL: http://www.national.com/packaging/folders/m08a.html
footprint M08A_N (SOIC, 8-Leads, Body 4.9x3.9mm, Pitch 1.27mm, IPC Medium Density)
footprint M08A_L (SOIC, 8-Leads, Body 4.9x3.9mm, Pitch 1.27mm, IPC High Density)
footprint M08A_M (SOIC, 8-Leads, Body 4.9x3.9mm, Pitch 1.27mm, IPC Low Density)
simulation model LM7171B (SUBCKT)
pins: 1 NC, 2 IN- (in), 3 IN+ (in), 4 V- (power), 5 NC, 6 OUT (out), 7 V+ (power), 8 NC

## LM7171BIN
designator U?
Very High Speed, High Output Current, Voltage Feedback Amplifier, 8-pin MDIP; PartNumber: LM7171BIN; Manufacturer: National Semiconductor; PackageTopMarking: NSUZXYTTE#*LM7171*BIN; PowerWise: N; CompType: Amplifiers; Published: 4-Dec-2008; LatestRevisionDate: 13-Jan-2009; LatestRevisionNote: Sim Model Added.; DatasheetVersion: May-2006; PackageVersion: revG, May-2006; PackageReference: N08E; Publisher: Altium Limited; PackageDescription: MDIP, .365 x .250 x .130in, 8 Lead, .100in Pitch; Supplier 1: Farnell; Supplier Part Number 1: 9493727; RoHS: N; PinCount: 8; Code_JEDEC: MS-001-BA; ComponentLink1Description: LM7171 Datasheet; ComponentLink1URL: http://www.national.com/ds/LM/LM7171.pdf; ComponentLink2Description: LM7171 Web Page; ComponentLink2URL: http://www.national.com/pf/LM/LM7171.html; ComponentLink3Description: N08E Package Page; ComponentLink3URL: http://www.national.com/packaging/folders/n08e.html
footprint N08E (DIP, 8-Leads, Row Spacing 7.62mm, Pitch 2.54mm, Body 9.91x6.35mm)
simulation model LM7171B (SUBCKT)
pins: 1 NC, 2 IN- (in), 3 IN+ (in), 4 V- (power), 5 NC, 6 OUT (out), 7 V+ (power), 8 NC

## LM7171BIN/NOPB
designator U?
Very High Speed, High Output Current, Voltage Feedback Amplifier, 8-pin MDIP, Pb-Free; PartNumber: LM7171BIN/NOPB; Manufacturer: National Semiconductor; PackageTopMarking: NSUZXYTTE#*LM7171*BIN; PowerWise: N; CompType: Amplifiers; Published: 1-Mar-2010; DatasheetVersion: May-2006; PackageVersion: revG, May-2006; PackageReference: N08E; Publisher: Altium Limited; PackageDescription: MDIP, .365 x .250 x .130in, 8 Lead, .100in Pitch; Supplier 1: Digi-Key; Supplier Part Number 1: LM7171BIN-ND; Supplier 2: Farnell; Supplier Part Number 2: 1564665; RoHS: Y; PinCount: 8; Code_JEDEC: MS-001-BA; ComponentLink1Description: LM7171 Datasheet; ComponentLink1URL: http://www.national.com/ds/LM/LM7171.pdf; ComponentLink2Description: LM7171 Web Page; ComponentLink2URL: http://www.national.com/pf/LM/LM7171.html; ComponentLink3Description: N08E Package Page; ComponentLink3URL: http://www.national.com/packaging/folders/n08e.html
footprint N08E (DIP, 8-Leads, Row Spacing 7.62mm, Pitch 2.54mm, Body 9.91x6.35mm)
simulation model LM7171B (SUBCKT)
pins: 1 NC, 2 IN- (in), 3 IN+ (in), 4 V- (power), 5 NC, 6 OUT (out), 7 V+ (power), 8 NC

## LM7301IM
designator U?
Low Power, 4 MHz GBW, Rail-to-Rail Input-Output Operational Amplifier, 8-pin Narrow SOIC; PartNumber: LM7301IM; Manufacturer: National Semiconductor; PackageTopMarking: NSZXTT*LM73*01IM; PowerWise: N; CompType: Amplifiers; Published: 4-Dec-2008; LatestRevisionDate: 13-Jan-2009; LatestRevisionNote: Sim Model Added.; DatasheetVersion: May-2009; PackageVersion: revM, May-2009; PackageReference: M08A; Publisher: Altium Limited; PackageDescription: SOIC Narrow, 4.9 x 3.9 x 1.45mm, 8 Lead, 1.27mm Pitch; Supplier 1: Farnell; Supplier Part Number 1: 9494170; RoHS: N; PinCount: 8; Code_JEDEC: MS-012-AA; Code_IPC: SOIC127P600-8; ComponentLink1Description: LM7301 Datasheet; ComponentLink1URL: http://www.national.com/ds/LM/LM7301.pdf; ComponentLink2Description: LM7301 Web Page; ComponentLink2URL: http://www.national.com/pf/LM/LM7301.html; ComponentLink3Description: M08A Package Page; ComponentLink3URL: http://www.national.com/packaging/folders/m08a.html
footprint M08A_N (SOIC, 8-Leads, Body 4.9x3.9mm, Pitch 1.27mm, IPC Medium Density)
footprint M08A_L (SOIC, 8-Leads, Body 4.9x3.9mm, Pitch 1.27mm, IPC High Density)
footprint M08A_M (SOIC, 8-Leads, Body 4.9x3.9mm, Pitch 1.27mm, IPC Low Density)
simulation model LM7301 (SUBCKT)
pins: 1 NC, 2 IN- (in), 3 IN+ (in), 4 V- (power), 5 NC, 6 OUT (out), 7 V+ (power), 8 NC

## LM7301IM5
designator U?
Low Power, 4 MHz GBW, Rail-to-Rail Input-Output Operational Amplifier, 5-pin SOT-23; PartNumber: LM7301IM5; Manufacturer: National Semiconductor; PackageTopMarking: A04A*XTT; PowerWise: N; CompType: Amplifiers; Published: 4-Dec-2008; LatestRevisionDate: 13-Jan-2009; LatestRevisionNote: Sim Model Added.; DatasheetVersion: May-2009; PackageVersion: revD, Aug-2008; PackageReference: MF05A; Publisher: Altium Limited; PackageDescription: Molded SOT-23, .115 x .063 x .040 in Body, 5 Lead, .0375 in Pitch; Supplier 1: Farnell; Supplier Part Number 1: 9779906; Supplier 2: Farnell; Supplier Part Number 2: 9779906RL; RoHS: N; PinCount: 5; ComponentLink1Description: LM7301 Datasheet; ComponentLink1URL: http://www.national.com/ds/LM/LM7301.pdf; ComponentLink2Description: LM7301 Web Page; ComponentLink2URL: http://www.national.com/pf/LM/LM7301.html; ComponentLink3Description: MF05A Package Page; ComponentLink3URL: http://www.national.com/packaging/folders/mf05a.html
footprint MF05A_N (SOT23, 5-Leads, Body 2.9x1.6mm, Pitch 0.95mm, Lead Span 2.8mm, IPC Medium Density)
footprint MF05A_L (SOT23, 5-Leads, Body 2.9x1.6mm, Pitch 0.95mm, Lead Span 2.8mm, IPC High Density)
footprint MF05A_M (SOT23, 5-Leads, Body 2.9x1.6mm, Pitch 0.95mm, Lead Span 2.8mm, IPC Low Density)
simulation model LM7301 (SUBCKT)
pins: 1 OUT (out), 2 V- (power), 3 IN+ (in), 4 IN- (in), 5 V+ (power)

## LM7301IM5/NOPB
designator U?
Low Power, 4 MHz GBW, Rail-to-Rail Input-Output Operational Amplifier in TinyPak Package, 5-pin SOT-23, Pb-Free; PartNumber: LM7301IM5/NOPB; Manufacturer: National Semiconductor; PackageTopMarking: A04A*XTT; PowerWise: N; CompType: Amplifiers; Published: 1-Mar-2010; DatasheetVersion: May-2009; PackageVersion: revD, Aug-2008; PackageReference: MF05A; Publisher: Altium Limited; PackageDescription: Molded SOT-23, .115 x .063 x .040 in Body, 5 Lead, .0375 in Pitch; Supplier 1: Digi-Key; Supplier Part Number 1: LM7301IM5TR-ND; Supplier 2: Digi-Key; Supplier Part Number 2: LM7301IM5CT-ND; Supplier 3: Digi-Key; Supplier Part Number 3: LM7301IM5DKR-ND; Supplier 4: Farnell; Supplier Part Number 4: 1514548; RoHS: Y; PinCount: 5; ComponentLink1Description: LM7301 Datasheet; ComponentLink1URL: http://www.national.com/ds/LM/LM7301.pdf; ComponentLink2Description: LM7301 Web Page; ComponentLink2URL: http://www.national.com/pf/LM/LM7301.html; ComponentLink3Description: MF05A Package Page; ComponentLink3URL: http://www.national.com/packaging/folders/mf05a.html
footprint MF05A_N (SOT23, 5-Leads, Body 2.9x1.6mm, Pitch 0.95mm, Lead Span 2.8mm, IPC Medium Density)
footprint MF05A_L (SOT23, 5-Leads, Body 2.9x1.6mm, Pitch 0.95mm, Lead Span 2.8mm, IPC High Density)
footprint MF05A_M (SOT23, 5-Leads, Body 2.9x1.6mm, Pitch 0.95mm, Lead Span 2.8mm, IPC Low Density)
simulation model LM7301 (SUBCKT)
pins: 1 OUT (out), 2 V- (power), 3 IN+ (in), 4 IN- (in), 5 V+ (power)

## LM7301IM5X
designator U?
Low Power, 4 MHz GBW, Rail-to-Rail Input-Output Operational Amplifier in TinyPak Package, 5-pin SOT-23; PartNumber: LM7301IM5X; Manufacturer: National Semiconductor; PackageTopMarking: A04A*XTT; PowerWise: N; CompType: Amplifiers; Published: 1-Mar-2010; DatasheetVersion: May-2009; PackageVersion: revD, Aug-2008; PackageReference: MF05A; Publisher: Altium Limited; PackageDescription: Molded SOT-23, .115 x .063 x .040 in Body, 5 Lead, .0375 in Pitch; RoHS: N; PinCount: 5; ComponentLink1Description: LM7301 Datasheet; ComponentLink1URL: http://www.national.com/ds/LM/LM7301.pdf; ComponentLink2Description: LM7301 Web Page; ComponentLink2URL: http://www.national.com/pf/LM/LM7301.html; ComponentLink3Description: MF05A Package Page; ComponentLink3URL: http://www.national.com/packaging/folders/mf05a.html
footprint MF05A_N (SOT23, 5-Leads, Body 2.9x1.6mm, Pitch 0.95mm, Lead Span 2.8mm, IPC Medium Density)
footprint MF05A_L (SOT23, 5-Leads, Body 2.9x1.6mm, Pitch 0.95mm, Lead Span 2.8mm, IPC High Density)
footprint MF05A_M (SOT23, 5-Leads, Body 2.9x1.6mm, Pitch 0.95mm, Lead Span 2.8mm, IPC Low Density)
simulation model LM7301 (SUBCKT)
pins: 1 OUT (out), 2 V- (power), 3 IN+ (in), 4 IN- (in), 5 V+ (power)

## LM7301IM/NOPB
designator U?
Low Power, 4 MHz GBW, Rail-to-Rail Input-Output Operational Amplifier in TinyPak Package, 8-pin Narrow SOIC, Pb-Free; PartNumber: LM7301IM/NOPB; Manufacturer: National Semiconductor; PackageTopMarking: NSZXTT*LM73*01IM; PowerWise: N; CompType: Amplifiers; Published: 1-Mar-2010; DatasheetVersion: May-2009; PackageVersion: revM, May-2009; PackageReference: M08A; Publisher: Altium Limited; PackageDescription: SOIC Narrow, 4.9 x 3.9 x 1.45mm, 8 Lead, 1.27mm Pitch; Supplier 1: Digi-Key; Supplier Part Number 1: LM7301IM-ND; Supplier 2: Farnell; Supplier Part Number 2: 1694032; RoHS: Y; PinCount: 8; Code_JEDEC: MS-012-AA; Code_IPC: SOIC127P600-8; ComponentLink1Description: LM7301 Datasheet; ComponentLink1URL: http://www.national.com/ds/LM/LM7301.pdf; ComponentLink2Description: LM7301 Web Page; ComponentLink2URL: http://www.national.com/pf/LM/LM7301.html; ComponentLink3Description: M08A Package Page; ComponentLink3URL: http://www.national.com/packaging/folders/m08a.html
footprint M08A_N (SOIC, 8-Leads, Body 4.9x3.9mm, Pitch 1.27mm, IPC Medium Density)
footprint M08A_L (SOIC, 8-Leads, Body 4.9x3.9mm, Pitch 1.27mm, IPC High Density)
footprint M08A_M (SOIC, 8-Leads, Body 4.9x3.9mm, Pitch 1.27mm, IPC Low Density)
simulation model LM7301 (SUBCKT)
pins: 1 NC, 2 IN- (in), 3 IN+ (in), 4 V- (power), 5 NC, 6 OUT (out), 7 V+ (power), 8 NC

## LM7301IMX
designator U?
Low Power, 4 MHz GBW, Rail-to-Rail Input-Output Operational Amplifier in TinyPak Package, 8-pin Narrow SOIC; PartNumber: LM7301IMX; Manufacturer: National Semiconductor; PackageTopMarking: NSZXTT*LM73*01IM; PowerWise: N; CompType: Amplifiers; Published: 1-Mar-2010; DatasheetVersion: May-2009; PackageVersion: revM, May-2009; PackageReference: M08A; Publisher: Altium Limited; PackageDescription: SOIC Narrow, 4.9 x 3.9 x 1.45mm, 8 Lead, 1.27mm Pitch; RoHS: N; PinCount: 8; Code_JEDEC: MS-012-AA; Code_IPC: SOIC127P600-8; ComponentLink1Description: LM7301 Datasheet; ComponentLink1URL: http://www.national.com/ds/LM/LM7301.pdf; ComponentLink2Description: LM7301 Web Page; ComponentLink2URL: http://www.national.com/pf/LM/LM7301.html; ComponentLink3Description: M08A Package Page; ComponentLink3URL: http://www.national.com/packaging/folders/m08a.html
footprint M08A_N (SOIC, 8-Leads, Body 4.9x3.9mm, Pitch 1.27mm, IPC Medium Density)
footprint M08A_L (SOIC, 8-Leads, Body 4.9x3.9mm, Pitch 1.27mm, IPC High Density)
footprint M08A_M (SOIC, 8-Leads, Body 4.9x3.9mm, Pitch 1.27mm, IPC Low Density)
simulation model LM7301 (SUBCKT)
pins: 1 NC, 2 IN- (in), 3 IN+ (in), 4 V- (power), 5 NC, 6 OUT (out), 7 V+ (power), 8 NC

## LM7321MA
designator U?
Rail-to-Rail Input/Output, ±15V, High Output Current and Unlimited Capacitive Load Operational Amplifier, 8-pin Narrow SOIC; PartNumber: LM7321MA; Manufacturer: National Semiconductor; PackageTopMarking: NSZXTT*LM732*1MA; PowerWise: Y; CompType: Amplifiers; Published: 4-Dec-2008; DatasheetVersion: Sep-2008; PackageVersion: revM, May-2009; PackageReference: M08A; Publisher: Altium Limited; PackageDescription: SOIC Narrow, 4.9 x 3.9 x 1.45mm, 8 Lead, 1.27mm Pitch; Supplier 1: Farnell; Supplier Part Number 1: 1663012; RoHS: Y; PinCount: 8; Code_JEDEC: MS-012-AA; Code_IPC: SOIC127P600-8; ComponentLink1Description: LM7321 Datasheet; ComponentLink1URL: http://www.national.com/ds/LM/LM7321.pdf; ComponentLink2Description: LM7321 Web Page; ComponentLink2URL: http://www.national.com/pf/LM/LM7321.html; ComponentLink3Description: M08A Package Page; ComponentLink3URL: http://www.national.com/packaging/folders/m08a.html
footprint M08A_N (SOIC, 8-Leads, Body 4.9x3.9mm, Pitch 1.27mm, IPC Medium Density)
footprint M08A_L (SOIC, 8-Leads, Body 4.9x3.9mm, Pitch 1.27mm, IPC High Density)
footprint M08A_M (SOIC, 8-Leads, Body 4.9x3.9mm, Pitch 1.27mm, IPC Low Density)
pins: 1 NC, 2 IN- (in), 3 IN+ (in), 4 V- (power), 5 NC, 6 OUT (out), 7 V+ (power), 8 NC

## LM7321MA/NOPB
designator U?
Single Rail-to-Rail Input/Output, ±15V, High Output Current and Unlimited Capacitive Load Operational Amplifier, 8-pin Narrow SOIC, Pb-Free; PartNumber: LM7321MA/NOPB; Manufacturer: National Semiconductor; PackageTopMarking: NSZXTT*LM732*1MA; PowerWise: Y; CompType: Amplifiers; Published: 1-Mar-2010; DatasheetVersion: Sep-2008; PackageVersion: revM, May-2009; PackageReference: M08A; Publisher: Altium Limited; PackageDescription: SOIC Narrow, 4.9 x 3.9 x 1.45mm, 8 Lead, 1.27mm Pitch; Supplier 1: Digi-Key; Supplier Part Number 1: LM7321MA-ND; Supplier 2: Farnell; Supplier Part Number 2: 1632104; RoHS: Y; PinCount: 8; Code_JEDEC: MS-012-AA; Code_IPC: SOIC127P600-8; ComponentLink1Description: LM7321 Datasheet; ComponentLink1URL: http://www.national.com/ds/LM/LM7321.pdf; ComponentLink2Description: LM7321 Web Page; ComponentLink2URL: http://www.national.com/pf/LM/LM7321.html; ComponentLink3Description: M08A Package Page; ComponentLink3URL: http://www.national.com/packaging/folders/m08a.html
footprint M08A_N (SOIC, 8-Leads, Body 4.9x3.9mm, Pitch 1.27mm, IPC Medium Density)
footprint M08A_L (SOIC, 8-Leads, Body 4.9x3.9mm, Pitch 1.27mm, IPC High Density)
footprint M08A_M (SOIC, 8-Leads, Body 4.9x3.9mm, Pitch 1.27mm, IPC Low Density)
pins: 1 NC, 2 IN- (in), 3 IN+ (in), 4 V- (power), 5 NC, 6 OUT (out), 7 V+ (power), 8 NC

## LM7321MAX/NOPB
designator U?
Single Rail-to-Rail Input/Output, ±15V, High Output Current and Unlimited Capacitive Load Operational Amplifier, 8-pin Narrow SOIC, Pb-Free; PartNumber: LM7321MAX/NOPB; Manufacturer: National Semiconductor; PackageTopMarking: NSZXTT*LM732*1MA; PowerWise: Y; CompType: Amplifiers; Published: 1-Mar-2010; DatasheetVersion: Sep-2008; PackageVersion: revM, May-2009; PackageReference: M08A; Publisher: Altium Limited; PackageDescription: SOIC Narrow, 4.9 x 3.9 x 1.45mm, 8 Lead, 1.27mm Pitch; Supplier 1: Digi-Key; Supplier Part Number 1: LM7321MAX-ND; RoHS: Y; PinCount: 8; Code_JEDEC: MS-012-AA; Code_IPC: SOIC127P600-8; ComponentLink1Description: LM7321 Datasheet; ComponentLink1URL: http://www.national.com/ds/LM/LM7321.pdf; ComponentLink2Description: LM7321 Web Page; ComponentLink2URL: http://www.national.com/pf/LM/LM7321.html; ComponentLink3Description: M08A Package Page; ComponentLink3URL: http://www.national.com/packaging/folders/m08a.html
footprint M08A_N (SOIC, 8-Leads, Body 4.9x3.9mm, Pitch 1.27mm, IPC Medium Density)
footprint M08A_L (SOIC, 8-Leads, Body 4.9x3.9mm, Pitch 1.27mm, IPC High Density)
footprint M08A_M (SOIC, 8-Leads, Body 4.9x3.9mm, Pitch 1.27mm, IPC Low Density)
pins: 1 NC, 2 IN- (in), 3 IN+ (in), 4 V- (power), 5 NC, 6 OUT (out), 7 V+ (power), 8 NC

## LM7321MF
designator U?
Rail-to-Rail Input/Output, ±15V, High Output Current and Unlimited Capacitive Load Operational Amplifier, 5-pin SOT-23; PartNumber: LM7321MF; Manufacturer: National Semiconductor; PackageTopMarking: AU4A*XTT; PowerWise: Y; CompType: Amplifiers; Published: 4-Dec-2008; DatasheetVersion: Sep-2008; PackageVersion: revD, Aug-2008; PackageReference: MF05A; Publisher: Altium Limited; PackageDescription: Molded SOT-23, .115 x .063 x .040 in Body, 5 Lead, .0375 in Pitch; Supplier 1: Farnell; Supplier Part Number 1: 1663013; RoHS: Y; PinCount: 5; ComponentLink1Description: LM7321 Datasheet; ComponentLink1URL: http://www.national.com/ds/LM/LM7321.pdf; ComponentLink2Description: LM7321 Web Page; ComponentLink2URL: http://www.national.com/pf/LM/LM7321.html; ComponentLink3Description: MF05A Package Page; ComponentLink3URL: http://www.national.com/packaging/folders/mf05a.html
footprint MF05A_N (SOT23, 5-Leads, Body 2.9x1.6mm, Pitch 0.95mm, Lead Span 2.8mm, IPC Medium Density)
footprint MF05A_L (SOT23, 5-Leads, Body 2.9x1.6mm, Pitch 0.95mm, Lead Span 2.8mm, IPC High Density)
footprint MF05A_M (SOT23, 5-Leads, Body 2.9x1.6mm, Pitch 0.95mm, Lead Span 2.8mm, IPC Low Density)
pins: 1 OUT (out), 2 V- (power), 3 IN+ (in), 4 IN- (in), 5 V+ (power)